# EAGLE library part TPS61087 (library heck)
The TPS61087 is a high-frequency, high-efficiency DC-DC converter with an integrated 3.2-A, 0.13-Ω power switch capable of providing an output voltage up to 18.5 V
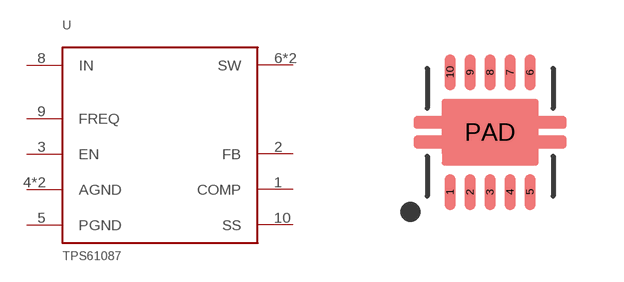
[diagram p41: symbol with the pads of WSON-10-PAD; footprint WSON-10-PAD]

Designator prefix U

## TPS61087DSC  [WSON-10-PAD]
1  COMP  in
2  FB  in
3  EN  in
4  AGND  pwr
5  PGND  pwr
6  SW  out
7  SW  out
8  IN  pwr
9  FREQ  in
10  SS  in
PAD  AGND  pwr

## Footprint WSON-10-PAD (pad centres in mm)
smd 0.28 x 0.9: 1 -1,-1.5; 2 -0.5,-1.5; 3 0,-1.5; 4 0.5,-1.5; 5 1,-1.5; 6 1,1.5; 7 0.5,1.5; 8 0,1.5; 9 -0.5,1.5; 10 -1,1.5
smd 1 x 1: PAD 0,0